# Altium footprint library SAM4N_Xplained_Pro.PcbLib: 42 footprints (part 2 of 3)
Each footprint in its own frame and in the unit in brackets; x right, y up, seen from the top. Pads: shape width x height; smd on the part's side, far side on the other; paste and mask are expansions set on the pad; w line width, h text height; cw(c..) or ccw(c..) is an arc to the next point about the centre after c.
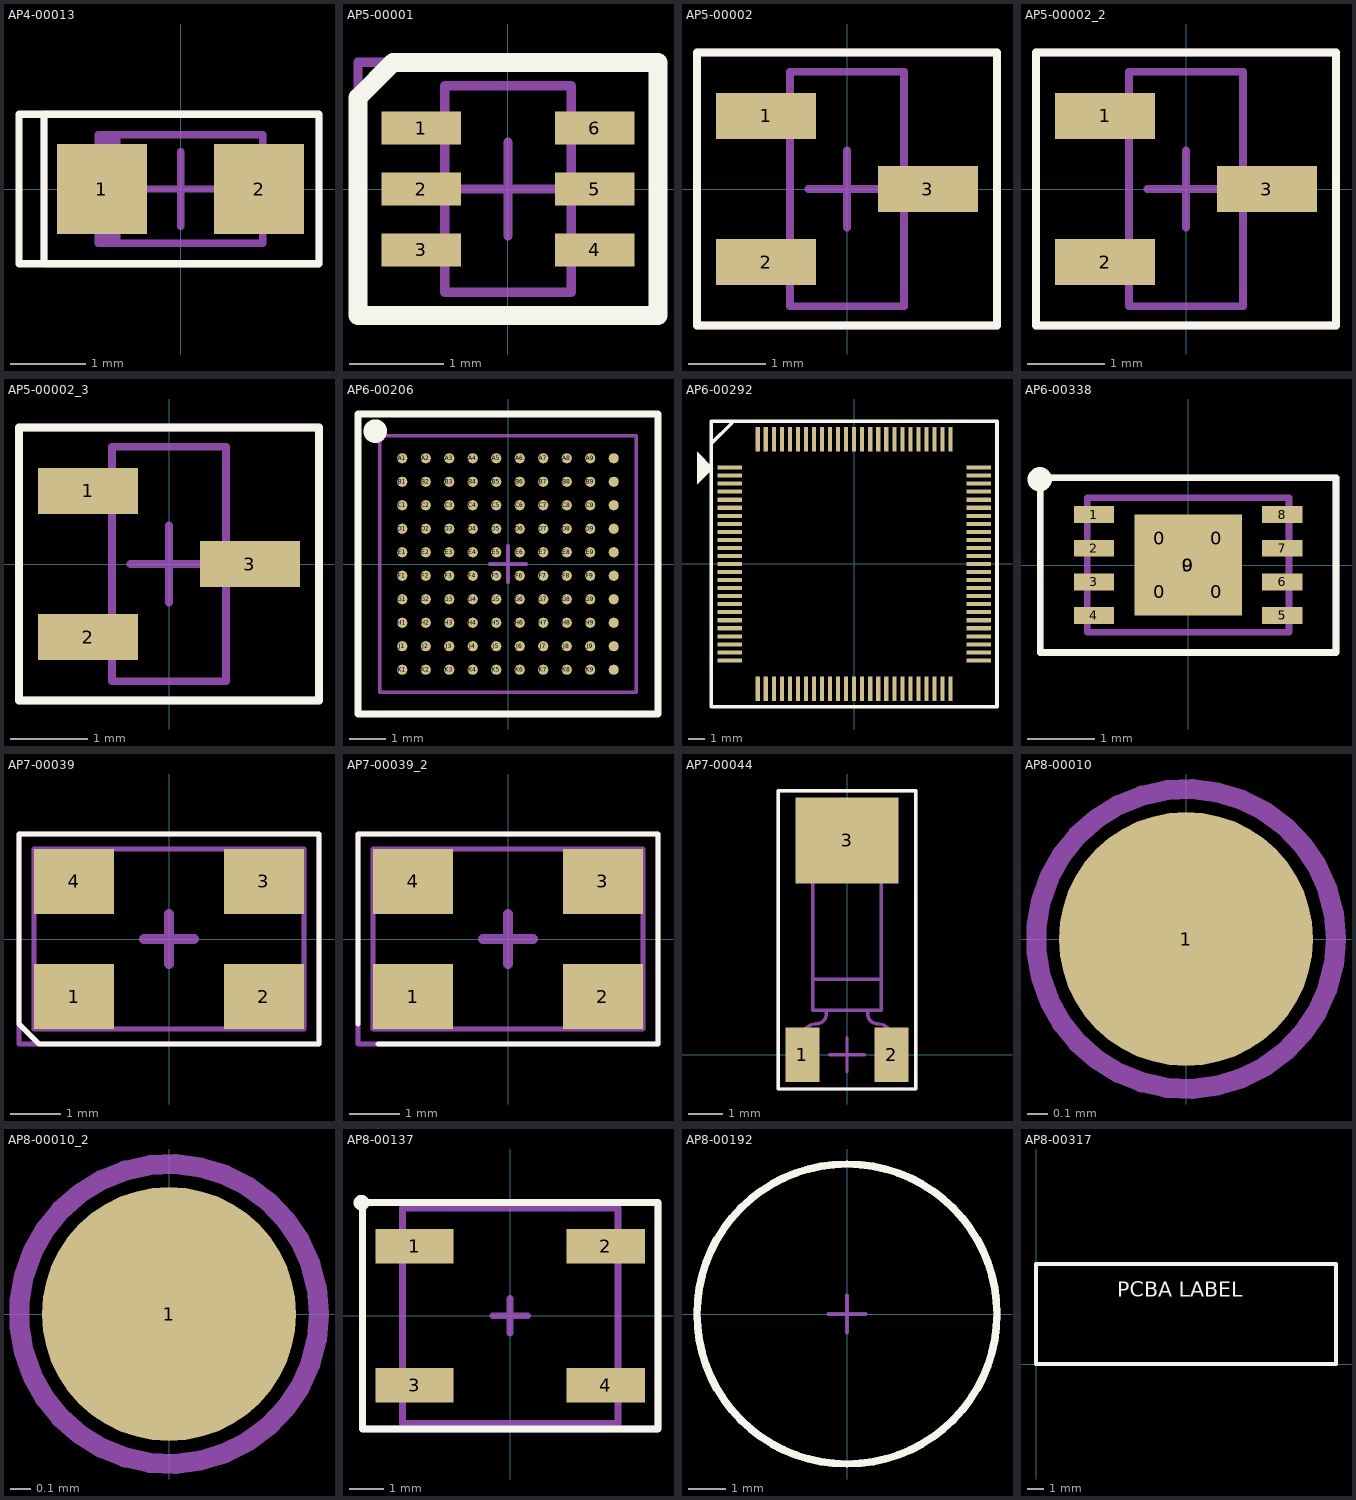
[diagram p1: the footprints below, top view; thin cyan lines are the x and y axes]

## AP4-00013 [mm]
pads (2):
  rect 1.2x1.2 smd: 1(-1.05,0) 2(1.05,0)
Top Overlay:
  lines w0.1: -1.762,1 -2.159,1 -2.159,-1 -1.794,-1 ; -1.794,-1 1.85,-1 1.85,1 -1.825,1 -1.825,-0.969 -1.794,-1
Mechanical 13:
  rectangle: -1.1,-0.725 -0.804,0.725
  lines w0.1: -1.1,-0.725 1.1,-0.725 1.1,0.725 -1.1,0.725 -1.1,-0.725
Mechanical 15:
  lines w0.1: -0.5,0 0.5,0 ; 0,-0.5 0,0.5 ; -1.825,-1 1.85,-1 1.85,1 -1.825,1 -1.825,-1
3D body: height 0.65, standoff 0.6, extent -0.425,-0.05 -0.325,0.05
3D body: height 0.61, standoff 0.6, extent -0.675,0.45 -0.525,0.6
3D body: height 0.61, standoff 0.6, extent -0.675,-0.6 -0.525,-0.45
3D body: height 0.61, standoff 0.6, extent -0.7,-0.1 0.7,0.1
3D body: height 0.61, standoff 0, extent 0.85,-0.625 1,0.625
3D body: height 0.61, standoff 0, extent -1,-0.625 -0.85,0.625
3D body: height 1.1, standoff 0.6, extent -0.7,-0.625 0.7,0.625
3D body: height 0.6, standoff 0, extent -0.85,-0.625 0.85,0.625

## AP5-00001 [mm]
pads (6):
  rect 0.85x0.35 smd: 1(-0.925,0.65) 2(-0.925,0) 3(-0.925,-0.65) 4(0.925,-0.65) 5(0.925,0) 6(0.925,0.65)
Top Overlay:
  lines w0.2: -1.6,-1.35 1.6,-1.35 1.6,1.35 -1.225,1.35 -1.6,0.975 -1.6,-1.35
Mechanical 13:
  lines w0.1: -0.675,-1.1 -0.675,1.1 0.675,1.1 0.675,-1.1 -0.675,-1.1
Mechanical 15:
  lines w0.1: -0.5,0 0.5,0 ; 0,-0.5 0,0.5 ; -1.6,-1.35 -1.6,1.35 1.6,1.35 1.6,-1.35 -1.6,-1.35
3D body "SOT363.step": height 0.95, standoff -0.04, extent -1.05,-1 1.05,1

## AP5-00002 [mm]
pads (3):
  rect 1.3x0.6 smd: 1(-1.05,0.95) 2(-1.05,-0.95) 3(1.05,0)
Top Overlay:
  lines w0.1: -1.95,-1.775 1.95,-1.775 1.95,1.775 -1.95,1.775 -1.95,-1.775
Mechanical 13:
  lines w0.1: -0.74,-1.525 -0.74,1.525 0.74,1.525 0.74,-1.525 -0.74,-1.525
Mechanical 15:
  lines w0.1: -0.5,0 0.5,0 ; 0,-0.5 0,0.5 ; -1.95,-1.775 -1.95,1.775 1.95,1.775 1.95,-1.775 -1.95,-1.775
3D body "nytt forsok_3-lead sot23-3.step": height 1, standoff -0.02, extent -1.25,-1.46 1.226,1.46

## AP5-00002_2 [mm]
pads (3):
  rect 1.3x0.6 smd: 1(-1.05,0.95) 2(-1.05,-0.95) 3(1.05,0)
Top Overlay:
  lines w0.1: -1.95,-1.775 1.95,-1.775 1.95,1.775 -1.95,1.775 -1.95,-1.775
Mechanical 13:
  lines w0.1: -0.74,-1.525 -0.74,1.525 0.74,1.525 0.74,-1.525 -0.74,-1.525
Mechanical 15:
  lines w0.1: -0.5,0 0.5,0 ; 0,-0.5 0,0.5 ; -1.95,-1.775 -1.95,1.775 1.95,1.775 1.95,-1.775 -1.95,-1.775
3D body "nytt forsok_3-lead sot23-3.step": height 1, standoff -0.02, extent -1.25,-1.46 1.226,1.46

## AP5-00002_3 [mm]
pads (3):
  rect 1.3x0.6 smd: 1(-1.05,0.95) 2(-1.05,-0.95) 3(1.05,0)
Top Overlay:
  lines w0.1: -1.95,-1.775 1.95,-1.775 1.95,1.775 -1.95,1.775 -1.95,-1.775
Mechanical 13:
  lines w0.1: -0.74,-1.525 -0.74,1.525 0.74,1.525 0.74,-1.525 -0.74,-1.525
Mechanical 15:
  lines w0.1: -0.5,0 0.5,0 ; 0,-0.5 0,0.5 ; -1.95,-1.775 -1.95,1.775 1.95,1.775 1.95,-1.775 -1.95,-1.775
3D body "nytt forsok_3-lead sot23-3.step": height 1, standoff -0.02, extent -1.25,-1.46 1.226,1.46

## AP6-00206 [mm]
pads (100):
  round 0.28 smd: A1(-2.925,2.925) A2(-2.275,2.925) A3(-1.625,2.925) A4(-0.975,2.925) A5(-0.325,2.925) A6(0.325,2.925) A7(0.975,2.925) A8(1.625,2.925) A9(2.275,2.925) A10(2.925,2.925) B1(-2.925,2.275) B2(-2.275,2.275) B3(-1.625,2.275) B4(-0.975,2.275) B5(-0.325,2.275) B6(0.325,2.275) B7(0.975,2.275) B8(1.625,2.275) B9(2.275,2.275) B10(2.925,2.275) C1(-2.925,1.625) C2(-2.275,1.625) C3(-1.625,1.625) C4(-0.975,1.625) C5(-0.325,1.625) C6(0.325,1.625) C7(0.975,1.625) C8(1.625,1.625) C9(2.275,1.625) C10(2.925,1.625) D1(-2.925,0.975) D2(-2.275,0.975) D3(-1.625,0.975) D4(-0.975,0.975) D5(-0.325,0.975) D6(0.325,0.975) D7(0.975,0.975) D8(1.625,0.975) D9(2.275,0.975) D10(2.925,0.975) E1(-2.925,0.325) E2(-2.275,0.325) E3(-1.625,0.325) E4(-0.975,0.325) E5(-0.325,0.325) E6(0.325,0.325) E7(0.975,0.325) E8(1.625,0.325) E9(2.275,0.325) E10(2.925,0.325) F1(-2.925,-0.325) F2(-2.275,-0.325) F3(-1.625,-0.325) F4(-0.975,-0.325) F5(-0.325,-0.325) F6(0.325,-0.325) F7(0.975,-0.325) F8(1.625,-0.325) F9(2.275,-0.325) F10(2.925,-0.325) G1(-2.925,-0.975) G2(-2.275,-0.975) G3(-1.625,-0.975) G4(-0.975,-0.975) G5(-0.325,-0.975) G6(0.325,-0.975) G7(0.975,-0.975) G8(1.625,-0.975) G9(2.275,-0.975) G10(2.925,-0.975) H1(-2.925,-1.625) H2(-2.275,-1.625) H3(-1.625,-1.625) H4(-0.975,-1.625) H5(-0.325,-1.625) H6(0.325,-1.625) H7(0.975,-1.625) H8(1.625,-1.625) H9(2.275,-1.625) H10(2.925,-1.625) J1(-2.925,-2.275) J2(-2.275,-2.275) J3(-1.625,-2.275) J4(-0.975,-2.275) J5(-0.325,-2.275) J6(0.325,-2.275) J7(0.975,-2.275) J8(1.625,-2.275) J9(2.275,-2.275) J10(2.925,-2.275) K1(-2.925,-2.925) K2(-2.275,-2.925) K3(-1.625,-2.925) K4(-0.975,-2.925) K5(-0.325,-2.925) K6(0.325,-2.925) K7(0.975,-2.925) K8(1.625,-2.925) K9(2.275,-2.925) K10(2.925,-2.925)
Top Overlay:
  circle w0.4: c-3.675,3.675 r0.125
  lines w0.2: -4.15,-4.15 4.15,-4.15 4.15,4.15 -4.15,4.15 -4.15,-4.15
Mechanical 13:
  lines w0.1: -3.55,-3.55 -3.55,3.55 3.55,3.55 3.55,-3.55 -3.55,-3.55
Mechanical 15:
  lines w0.1: -0.5,0 0.5,0 ; 0,-0.5 0,0.5 ; -4.15,-4.15 4.15,-4.15 4.15,4.15 -4.15,4.15 -4.15,-4.15
3D body: height 1.01, standoff 0.9, extent -3.449,3.15 -3.151,3.449
3D body: height 0.45, standoff 0, extent -3.15,2.704 -2.701,3.148
3D body: height 0.45, standoff 0, extent -3.15,2.054 -2.701,2.498
3D body: height 0.45, standoff 0, extent -3.15,1.404 -2.701,1.848
3D body: height 0.45, standoff 0, extent -3.15,0.754 -2.701,1.198
3D body: height 0.45, standoff 0, extent -3.15,0.104 -2.701,0.548
3D body: height 0.45, standoff 0, extent -3.15,-0.546 -2.701,-0.102
3D body: height 0.45, standoff 0, extent -3.15,-1.196 -2.701,-0.752
3D body: height 0.45, standoff 0, extent -3.15,-1.846 -2.701,-1.402
3D body: height 0.45, standoff 0, extent -3.15,-2.496 -2.701,-2.052
3D body: height 0.45, standoff 0, extent -3.15,-3.146 -2.701,-2.702
3D body: height 0.45, standoff 0, extent 2.7,2.704 3.149,3.148
3D body: height 0.45, standoff 0, extent 2.7,2.054 3.149,2.498
3D body: height 0.45, standoff 0, extent 2.7,1.404 3.149,1.848
3D body: height 0.45, standoff 0, extent 2.7,0.754 3.149,1.198
3D body: height 0.45, standoff 0, extent 2.7,0.104 3.149,0.548
3D body: height 0.45, standoff 0, extent 2.7,-0.546 3.149,-0.102
3D body: height 0.45, standoff 0, extent 2.7,-1.196 3.149,-0.752
3D body: height 0.45, standoff 0, extent 2.7,-1.846 3.149,-1.402
3D body: height 0.45, standoff 0, extent 2.7,-2.496 3.149,-2.052
3D body: height 0.45, standoff 0, extent 2.7,-3.146 3.149,-2.702
3D body: height 0.45, standoff 0, extent 2.05,2.704 2.499,3.148
3D body: height 0.45, standoff 0, extent 2.05,2.054 2.499,2.498
3D body: height 0.45, standoff 0, extent 2.05,1.404 2.499,1.848
3D body: height 0.45, standoff 0, extent 2.05,0.754 2.499,1.198
3D body: height 0.45, standoff 0, extent 2.05,0.104 2.499,0.548
3D body: height 0.45, standoff 0, extent 2.05,-0.546 2.499,-0.102
3D body: height 0.45, standoff 0, extent 2.05,-1.196 2.499,-0.752
3D body: height 0.45, standoff 0, extent 2.05,-1.846 2.499,-1.402
3D body: height 0.45, standoff 0, extent 2.05,-2.496 2.499,-2.052
3D body: height 0.45, standoff 0, extent 2.05,-3.146 2.499,-2.702
3D body: height 0.45, standoff 0, extent 1.4,2.704 1.849,3.148
3D body: height 0.45, standoff 0, extent 1.4,2.054 1.849,2.498
3D body: height 0.45, standoff 0, extent 1.4,1.404 1.849,1.848
3D body: height 0.45, standoff 0, extent 1.4,0.754 1.849,1.198
3D body: height 0.45, standoff 0, extent 1.4,0.104 1.849,0.548
3D body: height 0.45, standoff 0, extent 1.4,-0.546 1.849,-0.102
3D body: height 0.45, standoff 0, extent 1.4,-1.196 1.849,-0.752
3D body: height 0.45, standoff 0, extent 1.4,-1.846 1.849,-1.402
3D body: height 0.45, standoff 0, extent 1.4,-2.496 1.849,-2.052
3D body: height 0.45, standoff 0, extent 1.4,-3.146 1.849,-2.702
3D body: height 0.45, standoff 0, extent 0.75,2.704 1.199,3.148
3D body: height 0.45, standoff 0, extent 0.75,2.054 1.199,2.498
3D body: height 0.45, standoff 0, extent 0.75,1.404 1.199,1.848
3D body: height 0.45, standoff 0, extent 0.75,0.754 1.199,1.198
3D body: height 0.45, standoff 0, extent 0.75,0.104 1.199,0.548
3D body: height 0.45, standoff 0, extent 0.75,-0.546 1.199,-0.102
3D body: height 0.45, standoff 0, extent 0.75,-1.196 1.199,-0.752
3D body: height 0.45, standoff 0, extent 0.75,-1.846 1.199,-1.402
3D body: height 0.45, standoff 0, extent 0.75,-2.496 1.199,-2.052
3D body: height 0.45, standoff 0, extent 0.75,-3.146 1.199,-2.702
3D body: height 0.45, standoff 0, extent 0.1,2.704 0.549,3.148
3D body: height 0.45, standoff 0, extent 0.1,2.054 0.549,2.498
3D body: height 0.45, standoff 0, extent 0.1,1.404 0.549,1.848
3D body: height 0.45, standoff 0, extent 0.1,0.754 0.549,1.198
3D body: height 0.45, standoff 0, extent 0.1,0.104 0.549,0.548
3D body: height 0.45, standoff 0, extent 0.1,-0.546 0.549,-0.102
3D body: height 0.45, standoff 0, extent 0.1,-1.196 0.549,-0.752
3D body: height 0.45, standoff 0, extent 0.1,-1.846 0.549,-1.402
3D body: height 0.45, standoff 0, extent 0.1,-2.496 0.549,-2.052
3D body: height 0.45, standoff 0, extent 0.1,-3.146 0.549,-2.702
3D body: height 0.45, standoff 0, extent -0.55,2.704 -0.101,3.148
3D body: height 0.45, standoff 0, extent -0.55,2.054 -0.101,2.498
3D body: height 0.45, standoff 0, extent -0.55,1.404 -0.101,1.848
3D body: height 0.45, standoff 0, extent -0.55,0.754 -0.101,1.198
3D body: height 0.45, standoff 0, extent -0.55,0.104 -0.101,0.548
3D body: height 0.45, standoff 0, extent -0.55,-0.546 -0.101,-0.102
3D body: height 0.45, standoff 0, extent -0.55,-1.196 -0.101,-0.752
3D body: height 0.45, standoff 0, extent -0.55,-1.846 -0.101,-1.402
3D body: height 0.45, standoff 0, extent -0.55,-2.496 -0.101,-2.052
3D body: height 0.45, standoff 0, extent -0.55,-3.146 -0.101,-2.702
3D body: height 0.45, standoff 0, extent -1.2,2.704 -0.751,3.148
3D body: height 0.45, standoff 0, extent -1.2,2.054 -0.751,2.498
3D body: height 0.45, standoff 0, extent -1.2,1.404 -0.751,1.848
3D body: height 0.45, standoff 0, extent -1.2,0.754 -0.751,1.198
3D body: height 0.45, standoff 0, extent -1.2,0.104 -0.751,0.548
3D body: height 0.45, standoff 0, extent -1.2,-0.546 -0.751,-0.102
3D body: height 0.45, standoff 0, extent -1.2,-1.196 -0.751,-0.752
3D body: height 0.45, standoff 0, extent -1.2,-1.846 -0.751,-1.402
3D body: height 0.45, standoff 0, extent -1.2,-2.496 -0.751,-2.052
3D body: height 0.45, standoff 0, extent -1.2,-3.146 -0.751,-2.702
3D body: height 0.45, standoff 0, extent -1.85,2.704 -1.401,3.148
3D body: height 0.45, standoff 0, extent -1.85,2.054 -1.401,2.498
3D body: height 0.45, standoff 0, extent -1.85,1.404 -1.401,1.848
3D body: height 0.45, standoff 0, extent -1.85,0.754 -1.401,1.198
3D body: height 0.45, standoff 0, extent -1.85,0.104 -1.401,0.548
3D body: height 0.45, standoff 0, extent -1.85,-0.546 -1.401,-0.102
3D body: height 0.45, standoff 0, extent -1.85,-1.196 -1.401,-0.752
3D body: height 0.45, standoff 0, extent -1.85,-1.846 -1.401,-1.402
3D body: height 0.45, standoff 0, extent -1.85,-2.496 -1.401,-2.052
3D body: height 0.45, standoff 0, extent -1.85,-3.146 -1.401,-2.702
3D body: height 0.45, standoff 0, extent -2.5,2.704 -2.051,3.148
3D body: height 0.45, standoff 0, extent -2.5,2.054 -2.051,2.498
3D body: height 0.45, standoff 0, extent -2.5,1.404 -2.051,1.848
3D body: height 0.45, standoff 0, extent -2.5,0.754 -2.051,1.198
3D body: height 0.45, standoff 0, extent -2.5,0.104 -2.051,0.548
3D body: height 0.45, standoff 0, extent -2.5,-0.546 -2.051,-0.102
3D body: height 0.45, standoff 0, extent -2.5,-1.196 -2.051,-0.752
3D body: height 0.45, standoff 0, extent -2.5,-1.846 -2.051,-1.402
3D body: height 0.45, standoff 0, extent -2.5,-2.496 -2.051,-2.052
3D body: height 0.45, standoff 0, extent -2.5,-3.146 -2.051,-2.702
3D body: height 1, standoff 0.2, extent -3.5,-3.5 3.5,3.5

## AP6-00292 [mil]
pads (100):
  rect 60x10 smd mask+3: 1(-305.32,236.22) 2(-305.32,216.54) 3(-305.32,196.85) 4(-305.32,177.17) 5(-305.32,157.48) 6(-305.32,137.8) 7(-305.32,118.11) 8(-305.32,98.43) 9(-305.32,78.74) 10(-305.32,59.06) 11(-305.32,39.37) 12(-305.32,19.69) 13(-305.32,0) 14(-305.32,-19.69) 15(-305.32,-39.37) 16(-305.32,-59.06) 17(-305.32,-78.74) 18(-305.32,-98.43) 19(-305.32,-118.11) 20(-305.32,-137.8) 21(-305.32,-157.48) 22(-305.32,-177.17) 23(-305.32,-196.85) 24(-305.32,-216.54) 25(-305.32,-236.22) 51(305.32,-236.22) 52(305.32,-216.54) 53(305.32,-196.85) 54(305.32,-177.17) 55(305.32,-157.48) 56(305.32,-137.8) 57(305.32,-118.11) 58(305.32,-98.43) 59(305.32,-78.74) 60(305.32,-59.06) 61(305.32,-39.37) 62(305.32,-19.69) 63(305.32,0) 64(305.32,19.69) 65(305.32,39.37) 66(305.32,59.06) 67(305.32,78.74) 68(305.32,98.43) 69(305.32,118.11) 70(305.32,137.8) 71(305.32,157.48) 72(305.32,177.17) 73(305.32,196.85) 74(305.32,216.54) 75(305.32,236.22)
  rect 10x60 smd mask+3: 26(-236.22,-305.32) 27(-216.54,-305.32) 28(-196.85,-305.32) 29(-177.17,-305.32) 30(-157.48,-305.32) 31(-137.8,-305.32) 32(-118.11,-305.32) 33(-98.43,-305.32) 34(-78.74,-305.32) 35(-59.06,-305.32) 36(-39.37,-305.32) 37(-19.69,-305.32) 38(0,-305.32) 39(19.69,-305.32) 40(39.37,-305.32) 41(59.06,-305.32) 42(78.74,-305.32) 43(98.43,-305.32) 44(118.11,-305.32) 45(137.8,-305.32) 46(157.48,-305.32) 47(177.17,-305.32) 48(196.85,-305.32) 49(216.54,-305.32) 50(236.22,-305.32) 76(236.22,305.32) 77(216.54,305.32) 78(196.85,305.32) 79(177.17,305.32) 80(157.48,305.32) 81(137.8,305.32) 82(118.11,305.32) 83(98.43,305.32) 84(78.74,305.32) 85(59.06,305.32) 86(39.37,305.32) 87(19.69,305.32) 88(0,305.32) 89(-19.69,305.32) 90(-39.37,305.32) 91(-59.06,305.32) 92(-78.74,305.32) 93(-98.43,305.32) 94(-118.11,305.32) 95(-137.8,305.32) 96(-157.48,305.32) 97(-177.17,305.32) 98(-196.85,305.32) 99(-216.54,305.32) 100(-236.22,305.32)
Top Overlay:
  pour cut-out: -345,235 -385,275 -385,195
  lines w9: -350,295 -300,345 ; -350,-350 350,-350 350,350 -350,350 -350,-350
3D body "User Library-LQFP100.step": height 61.99, standoff -1, extent -314.95,-314.97 314.97,314.95

## AP6-00338 [mm]
pads (14):
  round 0.4 on Top Paste: 0(-0.425,-0.4) 0(-0.425,0.4) 0(0,0) 0(0.425,-0.4) 0(0.425,0.4)
  rect 0.6x0.25 smd: 1(-1.4,0.75) 2(-1.4,0.25) 3(-1.4,-0.25) 4(-1.4,-0.75) 5(1.4,-0.75) 6(1.4,-0.25) 7(1.4,0.25) 8(1.4,0.75)
  rect 1.6x1.5 smd paste-0.7: 9(0,0)
Top Overlay:
  circle w0.25: c-2.206,1.275 r0.056
  lines w0.1: -2.2,-1.3 -2.2,1.3 2.2,1.3 2.2,-1.3 -2.2,-1.3
Mechanical 13:
  lines w0.1: -1.5,-1 -1.5,1 1.5,1 1.5,-1 -1.5,-1
Mechanical 15:
  lines w0.1: -0.5,0 0.5,0 ; 0,-0.5 0,0.5 ; -2.2,-1.3 -2.2,1.3 2.2,1.3 2.2,-1.3 -2.2,-1.3
3D body: height 0.9, standoff 0.02, extent -1.5,-1 1.5,1
3D body: height 0.2, standoff 0, extent -1.525,0.625 -1.125,0.875
3D body: height 0.2, standoff 0, extent -1.525,0.125 -1.125,0.375
3D body: height 0.2, standoff 0, extent -1.525,-0.375 -1.125,-0.125
3D body: height 0.2, standoff 0, extent -1.525,-0.875 -1.125,-0.625
3D body: height 0.2, standoff 0, extent 1.125,0.625 1.525,0.875
3D body: height 0.2, standoff 0, extent 1.125,0.125 1.525,0.375
3D body: height 0.2, standoff 0, extent 1.125,-0.375 1.525,-0.125
3D body: height 0.2, standoff 0, extent 1.125,-0.875 1.525,-0.625
3D body: height 0.92, standoff 0.9, extent -1.299,0.6 -1.1,0.8
3D body: height 0.2, standoff 0, extent -0.85,-0.8 0.85,0.8

## AP7-00039 [mm]
pads (4):
  rect 1.6x1.3 smd: 1(-1.9,-1.15) 2(1.9,-1.15) 3(1.9,1.15) 4(-1.9,1.15)
Top Overlay:
  lines w0.1: -3,-1.7 -2.6,-2.1 3,-2.1 3,2.1 -3,2.1 -3,-1.7
Mechanical 13:
  lines w0.1: -2.7,-1.8 -2.7,1.8 2.7,1.8 2.7,-1.8 -2.7,-1.8
Mechanical 15:
  lines w0.1: -3,-2.1 3,-2.1 3,2.1 -3,2.1 -3,-2.1
  lines w0.2: -0.5,0 0.5,0 ; 0,-0.5 0,0.5
3D body: height 1.2, standoff 0, extent -2.7,-1.8 2.7,1.8
3D body: height 0.34, standoff 0, extent -2.675,0.875 -1.475,1.775
3D body: height 0.34, standoff 0, extent 1.475,0.875 2.675,1.775
3D body: height 0.34, standoff 0, extent 1.475,-1.775 2.675,-0.875
3D body: height 0.34, standoff 0, extent -2.675,-1.775 -1.475,-0.875

## AP7-00039_2 [mm]
pads (4):
  rect 1.6x1.3 smd: 1(-1.9,-1.15) 2(1.9,-1.15) 3(1.9,1.15) 4(-1.9,1.15)
Top Overlay:
  lines w0.1: -3,-1.7 -3,2.1 3,2.1 3,-2.1 -2.6,-2.1
Mechanical 13:
  lines w0.1: -2.7,-1.8 -2.7,1.8 2.7,1.8 2.7,-1.8 -2.7,-1.8
Mechanical 15:
  lines w0.1: -3,-2.1 3,-2.1 3,2.1 -3,2.1 -3,-2.1
  lines w0.2: -0.5,0 0.5,0 ; 0,-0.5 0,0.5
3D body: height 1.2, standoff 0, extent -2.7,-1.8 2.7,1.8
3D body: height 0.34, standoff 0, extent -2.675,0.875 -1.475,1.775
3D body: height 0.34, standoff 0, extent 1.475,0.875 2.675,1.775
3D body: height 0.34, standoff 0, extent 1.475,-1.775 2.675,-0.875
3D body: height 0.34, standoff 0, extent -2.675,-1.775 -1.475,-0.875

## AP7-00044 [mm]
pads (3):
  rect 1x1.6 smd: 1(-1.3,0) 2(1.3,0)
  rect 3x2.5 smd: 3(0,6.25)
Top Overlay:
  lines w0.1: -2,-1 2,-1 2,7.7 -2,7.7 -2,-1
Mechanical 13:
  lines w0.1: -1.3,-0.7 -1.3,0.5 cw(c-0.9,0.5) -0.9,0.9 ccw(c-0.9,1.2) -0.6,1.2 -0.6,1.3 ; -1,2.2 1,2.2 ; 0.6,1.3 0.6,1.2 ccw(c0.9,1.2) 0.9,0.9 cw(c0.9,0.5) 1.3,0.5 1.3,-0.7 ; -1,1.3 -1,7.4 1,7.4 1,1.3 -1,1.3
Mechanical 15:
  lines w0.1: -0.5,0 0.5,0 ; 0,-0.5 0,0.5 ; -2,-1 -2,7.7 2,7.7 2,-1 -2,-1
3D body: height 2.08, standoff 0, extent -1,1.3 1,7.4
3D body: height 0.5, standoff 0, extent -1.5,-0.7 -1.1,0.3
3D body: height 0.5, standoff 0, extent -1.5,0.017 -0.51,1.007
3D body: height 0.5, standoff 0, extent -0.91,0.724 -0.51,1.3
3D body: height 0.5, standoff 0, extent 0.51,0.724 0.91,1.3
3D body: height 0.5, standoff 0, extent 0.51,0.017 1.5,1.007
3D body: height 0.5, standoff 0, extent 1.1,-0.7 1.5,0.3

## AP8-00010 [mm]
pads (1):
  round 1.27 smd paste-0.635: 1(0,0)
Mechanical 15:
  circle w0.1: c0,0 r0.75

## AP8-00010_2 [mm]
pads (1):
  round 1.27 smd paste-0.635: 1(0,0)
Mechanical 15:
  circle w0.1: c0,0 r0.75

## AP8-00137 [mm]
pads (4):
  rect 2.25x1 smd: 1(-2.75,2) 2(2.75,2) 3(-2.75,-2) 4(2.75,-2)
Top Overlay:
  circle w0.254: c-4.275,3.25 r0.1
  lines w0.2: -4.25,-3.25 -4.25,3.25 4.25,3.25 4.25,-3.25 -4.25,-3.25
Mechanical 13:
  lines w0.2: -3.1,-3.1 3.1,-3.1 3.1,3.1 -3.1,3.1 -3.1,-3.1
Mechanical 15:
  lines w0.2: -0.5,0 0.5,0 ; 0,-0.5 0,0.5 ; -4.25,-3.25 4.25,-3.25 4.25,3.25 -4.25,3.25 -4.25,-3.25
3D body: height 2.5, standoff 0.1, extent -3.1,-3.1 3.1,3.1
3D body: height 3.4, standoff 2.5, extent -1.45,-1.45 1.439,1.444

## AP8-00192 [mm]
Top Overlay:
  circle w0.2: c0,0 r4
Mechanical 15:
  circle w0.2: c0,0 r4
  lines w0.1: -0.5,0 0.5,0 ; 0,-0.5 0,0.5
3D body "SJxx76.stp": height 2.79, standoff 0, extent -4,-3.997 4.001,3.997

## AP8-00317 [mm]
Top Overlay:
  lines w0.254: 0,0 0,6 18,6 18,0 0,0
  text "PCBA LABEL" at 4.875,3.725 h1.52